# Altium integrated library 220uF_PolCap_EEE-HA1E221UP.IntLib: 1 symbol
Pins are listed as number, name and electrical type; pins without a type are passive.

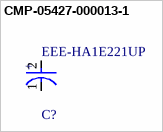
[diagram p0: symbol CMP-05427-000013-1]

## CMP-05427-000013-1
designator C?, comment EEE-HA1E221UP
CAP ALUM 220UF 20% 25V SMD; Manufacturer: Panasonic; Leakage Current: 55uA; Dissipation Factor: 16%; Material: Aluminum; Life: 1000Hours; Ripple Current: 160mA; Temperature Range Low: -40°C; ComponentLink2Description: Datasheet; Automotive: No; Category: Cap; Manufacturer Part Number: EEE-HA1E221UP; Package: HAF; Device Class L3: Aluminum Electrolytic Capacitors; Device Class L1: Passive Components; Voltage: 25V; RoHS: TRUE; Height: 10.5mm; Value: 220uF; Mouser Description: Aluminum Electrolytic Capacitors - SMD 220UF 25V ELECT HA SMD; Lead Free: Yes; Device Class L2: Capacitors; Octopart: https://octopart.com/eee-ha1e221up-panasonic-39481261; Voltage Rating: 25V; Temperature Range High: +105°C; Tolerance: 20%; Temperature: -40°C to +105°C; ComponentLink2URL: https://industrial.panasonic.com/cdbs/www-data/pdf/RDE0000/ABA0000C1151.pdf; Capacitance: 220uF; Digikey Description: CAP ALUM 220UF 20% 25V SMD
footprint FP-HAF-MFG
pins: 1 C, 2 A
text: +